# Altium footprint library WSON10_2X2.pcblib: 1 footprints
Each footprint in its own frame and in the unit in brackets; x right, y up, seen from the top. Pads: shape width x height; smd on the part's side, far side on the other; paste and mask are expansions set on the pad; w line width, h text height; cw(c..) or ccw(c..) is an arc to the next point about the centre after c.
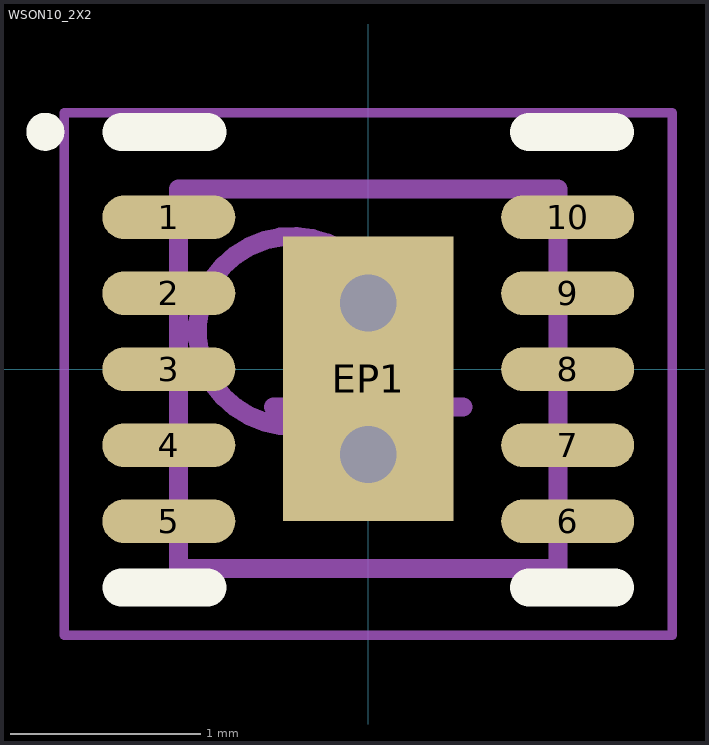
[diagram p0: the footprint, top view; thin cyan lines are the x and y axes]

## WSON10_2X2 [mm]
height 0.8
pads (11):
  oval 0.7x0.23 smd: 1(-1.05,0.8) 2(-1.05,0.4) 3(-1.05,0) 4(-1.05,-0.4) 5(-1.05,-0.8) 6(1.05,-0.8) 7(1.05,-0.4) 8(1.05,0) 9(1.05,0.4) 10(1.05,0.8)
  rect 0.9x1.5 smd: EP1(0,-0.05)
via 0,-0.45 diameter 0.3 hole 0.3
via 0,0.35 diameter 0.3 hole 0.3
Top Overlay:
  circle w0.1: c-1.7,1.25 r0.05
  lines w0.2: -1.3,-1.15 -0.845,-1.15 ; -1.3,1.25 -0.845,1.25 ; 0.845,-1.15 1.3,-1.15 ; 0.845,1.25 1.3,1.25
Mechanical 13:
  circle w0.1: c-0.4,0.2 r0.5
  lines w0.1: -1,-1.05 -1,0.95 1,0.95 1,-1.05 -1,-1.05
Mechanical 15:
  lines w0.05: -1.6,-1.4 -1.6,1.35 1.6,1.35 1.6,-1.4 -1.6,-1.4
  lines w0.1: -0.5,-0.2 0.5,-0.2 ; 0,-0.7 0,0.3
Mechanical 17:
  text "'.Designator'" at -1.9,0 h0.33
Mechanical 19:
  text "'.Comment'" at -1.4,-0.8 h0.33
3D body: height 0.8, standoff 0.05, extent -1,-1.05 1,0.95